# Altium footprint library IC_Digital.PcbLib: 17 footprints (part 1 of 2)
Each footprint in its own frame and in the unit in brackets; x right, y up, seen from the top. Pads: shape width x height; smd on the part's side, far side on the other; paste and mask are expansions set on the pad; w line width, h text height; cw(c..) or ccw(c..) is an arc to the next point about the centre after c.
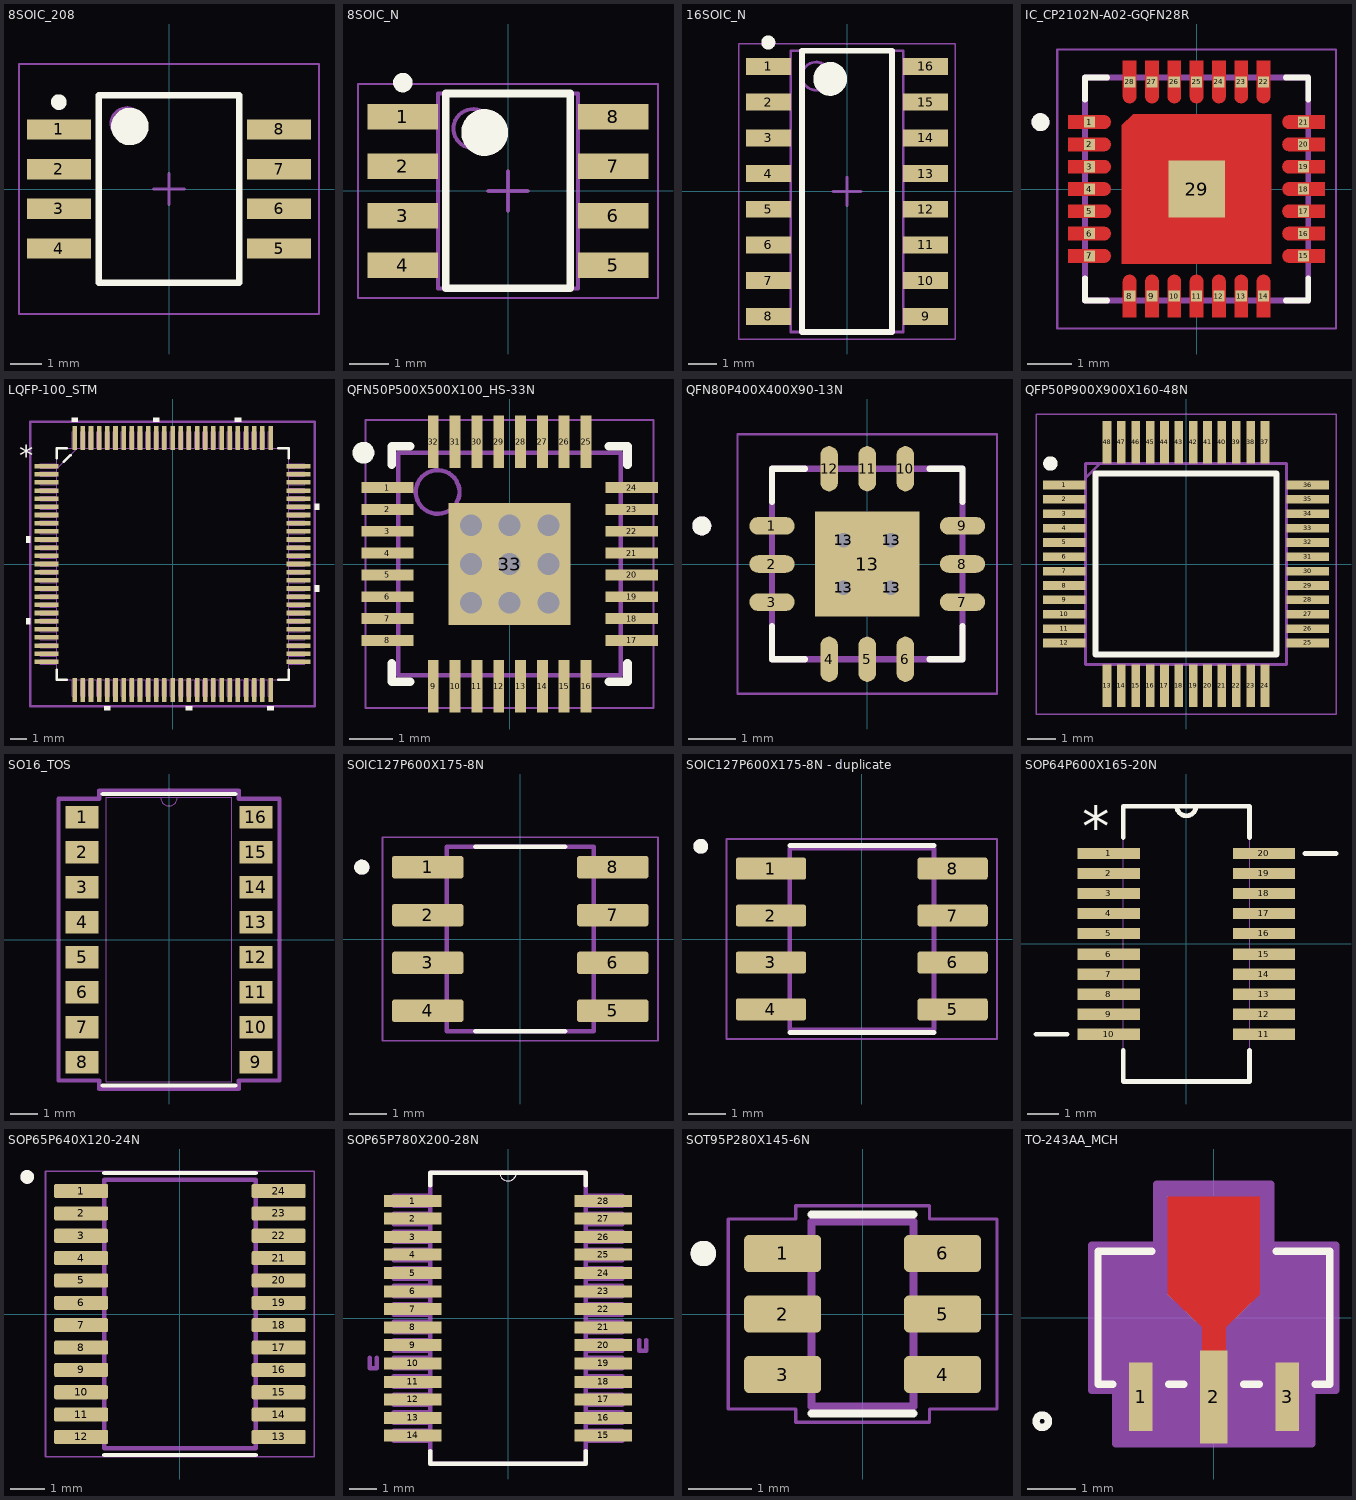
[diagram p0: the footprints below, top view; thin cyan lines are the x and y axes]

## 8SOIC_208 [mm] "SOIC, 8-Leads, Body 5,23x5,23mm, Pitch 1,27mm, IPC Medium Density"
height 1.95
pads (8):
  rect 2.05x0.65 smd: 1(-3.525,1.905) 2(-3.525,0.635) 3(-3.525,-0.635) 4(-3.525,-1.905) 5(3.525,-1.905) 6(3.525,-0.635) 7(3.525,0.635) 8(3.525,1.905)
Top Overlay:
  circle w0.6: c-1.25,2 r0.3
  circle w0.25: c-3.525,2.78 r0.125
  lines w0.2: -2.25,-3 2.25,-3 2.25,3 -2.25,3 -2.25,-3
Mechanical 13:
  circle w0.1: c-1.35,2.1 r0.5
  lines w0.1: -2.25,-3 2.25,-3 2.25,3 -2.25,3 -2.25,-3
Mechanical 15:
  lines w0.05: -4.8,-4 4.8,-4 4.8,4 -4.8,4 -4.8,-4
  lines w0.1: -0.5,0 0.5,0 ; 0,-0.5 0,0.5
3D body: height 1.95, standoff 0.01, extent -2.65,-2.65 2.65,2.65

## 8SOIC_N [mm] "SOIC, 8-Leads, Body 4,90x3,90mm, Pitch 1,27mm, IPC Medium Density"
height 1.75
pads (8):
  rect 1.8x0.65 smd: 1(-2.7,1.905) 2(-2.7,0.635) 3(-2.7,-0.635) 4(-2.7,-1.905) 5(2.7,-1.905) 6(2.7,-0.635) 7(2.7,0.635) 8(2.7,1.905)
Top Overlay:
  circle w0.25: c-2.7,2.78 r0.125
  circle w0.6: c-0.6,1.5 r0.3
  lines w0.2: -1.6,-2.5 -1.6,2.5 1.6,2.5 1.6,-2.5 -1.6,-2.5
Mechanical 13:
  circle w0.1: c-0.9,1.6 r0.5
  lines w0.1: -1.8,-2.5 -1.8,2.5 1.8,2.5 1.8,-2.5 -1.8,-2.5
Mechanical 15:
  lines w0.05: -3.85,-2.75 -3.85,2.75 3.85,2.75 3.85,-2.75 -3.85,-2.75
  lines w0.1: -0.5,0 0.5,0 ; 0,-0.5 0,0.5
3D body: height 1.75, standoff 0.01, extent -2,-2.5 2,2.5

## 16SOIC_N [mm] "SOIC, 16-Leads, Body 9,90x3,90mm, Pitch 1,27mm, IPC Medium Density"
height 1.75
pads (16):
  rect 1.6x0.6 smd: 1(-2.8,4.445) 2(-2.8,3.175) 3(-2.8,1.905) 4(-2.8,0.635) 5(-2.8,-0.635) 6(-2.8,-1.905) 7(-2.8,-3.175) 8(-2.8,-4.445) 9(2.8,-4.445) 10(2.8,-3.175) 11(2.8,-1.905) 12(2.8,-0.635) 13(2.8,0.635) 14(2.8,1.905) 15(2.8,3.175) 16(2.8,4.445)
Top Overlay:
  circle w0.6: c-0.6,4 r0.3
  circle w0.25: c-2.8,5.295 r0.125
  lines w0.2: -1.6,-5 1.6,-5 1.6,5 -1.6,5 -1.6,-5
Mechanical 13:
  circle w0.1: c-1.1,4.1 r0.5
  lines w0.1: -2,-5 2,-5 2,5 -2,5 -2,-5
Mechanical 15:
  lines w0.05: -3.85,-5.25 3.85,-5.25 3.85,5.25 -3.85,5.25 -3.85,-5.25
  lines w0.1: -0.5,0 0.5,0 ; 0,-0.5 0,0.5
3D body: height 1.75, standoff 0.01, extent -2,-5 2,5

## IC_CP2102N-A02-GQFN28R [mm]
height 0.8
pads (29):
  rect 0.25x0.25 smd paste-1 mask+0: 1(-2.4,1.5) 2(-2.4,1) 3(-2.4,0.5) 4(-2.4,0) 5(-2.4,-0.5) 6(-2.4,-1) 7(-2.4,-1.5) 8(-1.5,-2.4) 9(-1,-2.4) 10(-0.5,-2.4) 11(0,-2.4) 12(0.5,-2.4) 13(1,-2.4) 14(1.5,-2.4) 15(2.4,-1.5) 16(2.4,-1) 17(2.4,-0.5) 18(2.4,0) 19(2.4,0.5) 20(2.4,1) 21(2.4,1.5) 22(1.5,2.4) 23(1,2.4) 24(0.5,2.4) 25(0,2.4) 26(-0.5,2.4) 27(-1,2.4) 28(-1.5,2.4)
  rect 1.27x1.27 smd paste+0.424 mask+0: 29(0,0)
Top Layer:
  drawing of 29 lines, arcs and shapes, not listed
Top Overlay:
  circle w0.2: c-3.5,1.5 r0.1
  lines w0.127: -2.5,-2 -2.5,-2.5 -2,-2.5 ; -2.5,2 -2.5,2.5 -2,2.5 ; 2,-2.5 2.5,-2.5 2.5,-2 ; 2,2.5 2.5,2.5 2.5,2
Top Paste:
  drawing of 28 lines, arcs and shapes, not listed
Top Solder:
  drawing of 29 lines, arcs and shapes, not listed
Mechanical 13:
  circle w0.2: c-3.5,1.5 r0.1
  lines w0.127: -2.5,-2.5 2.5,-2.5 2.5,2.5 -2.5,2.5 -2.5,-2.5
Mechanical 15:
  lines w0.05: -3.125,-3.125 3.125,-3.125 3.125,3.125 -3.125,3.125 -3.125,-3.125
3D body "step_temp.STEP": height 0.8, standoff 0, extent -2.5,-2.5 2.5,2.5

## LQFP-100_STM [mil]
pads (100):
  rect 58x11 smd paste+0 mask+0: 1(-304,236.22) 2(-304,216.54) 3(-304,196.85) 4(-304,177.17) 5(-304,157.48) 6(-304,137.8) 7(-304,118.11) 8(-304,98.43) 9(-304,78.74) 10(-304,59.06) 11(-304,39.37) 12(-304,19.69) 13(-304,0) 14(-304,-19.68) 15(-304,-39.37) 16(-304,-59.06) 17(-304,-78.74) 18(-304,-98.43) 19(-304,-118.11) 20(-304,-137.8) 21(-304,-157.48) 22(-304,-177.17) 23(-304,-196.85) 24(-304,-216.54) 25(-304,-236.22) 51(304,-236.22) 52(304,-216.54) 53(304,-196.85) 54(304,-177.17) 55(304,-157.48) 56(304,-137.8) 57(304,-118.11) 58(304,-98.43) 59(304,-78.74) 60(304,-59.06) 61(304,-39.37) 62(304,-19.68) 63(304,0) 64(304,19.68) 65(304,39.37) 66(304,59.06) 67(304,78.74) 68(304,98.43) 69(304,118.11) 70(304,137.8) 71(304,157.48) 72(304,177.17) 73(304,196.85) 74(304,216.54) 75(304,236.22)
  rect 11x58 smd paste+0 mask+0: 26(-236.22,-304) 27(-216.54,-304) 28(-196.85,-304) 29(-177.17,-304) 30(-157.48,-304) 31(-137.8,-304) 32(-118.11,-304) 33(-98.43,-304) 34(-78.74,-304) 35(-59.06,-304) 36(-39.37,-304) 37(-19.68,-304) 38(0,-304) 39(19.68,-304) 40(39.37,-304) 41(59.06,-304) 42(78.74,-304) 43(98.43,-304) 44(118.11,-304) 45(137.8,-304) 46(157.48,-304) 47(177.17,-304) 48(196.85,-304) 49(216.54,-304) 50(236.22,-304) 76(236.22,304) 77(216.54,304) 78(196.85,304) 79(177.17,304) 80(157.48,304) 81(137.8,304) 82(118.11,304) 83(98.43,304) 84(78.74,304) 85(59.06,304) 86(39.37,304) 87(19.68,304) 88(0,304) 89(-19.68,304) 90(-39.37,304) 91(-59.06,304) 92(-78.74,304) 93(-98.43,304) 94(-118.11,304) 95(-137.8,304) 96(-157.48,304) 97(-177.17,304) 98(-196.85,304) 99(-216.54,304) 100(-236.22,304)
Top Overlay:
  region: -228.72,343 -243.72,343 -243.72,353 -228.72,353
  region: -31.87,343 -46.87,343 -46.87,353 -31.87,353
  region: 164.98,343 149.98,343 149.98,353 164.98,353
  region: 343,145.3 353,145.3 353,130.3 343,130.3
  region: 343,-51.56 353,-51.56 353,-66.56 343,-66.56
  region: 243.72,-343 228.72,-343 228.72,-353 243.72,-353
  region: 46.87,-343 31.87,-343 31.87,-353 46.87,-353
  region: -149.98,-343 -164.98,-343 -164.98,-353 -149.98,-353
  region: -343,-130.3 -353,-130.3 -353,-145.3 -343,-145.3
  region: -343,66.56 -353,66.56 -353,51.56 -343,51.56
  lines w6: -279.5,-254.82 -279.5,-279.5 -254.82,-279.5 ; -279.5,254.82 -279.5,279.5 -254.82,279.5 ; -262.72,246.28 -246.28,262.72 ; 254.82,-279.5 279.5,-279.5 279.5,-254.82 ; 254.82,279.5 279.5,279.5 279.5,254.82
  text "*" at -370.5,236.06 h50
Mechanical 13:
  drawing of 405 lines, arcs and shapes, not listed
  text "*" at -370.5,236.06 h50
Mechanical 15:
  lines w6: -343,-343 343,-343 343,343 -343,343 -343,-343
3D body "LQFP-100_STM.step": height 63.11, standoff 0, extent -319.02,-319.02 319.02,319.02

## QFN50P500X500X100_HS-33N [mm] "QFN, 32-Leads, Body 5,00x5,00mm, Pitch 0,50mm, Thermal Pad 3,10x3,10mm, IPC Medium Density"
height 1
pads (33):
  rect 1.2x0.25 smd: 1(-2.8,1.75) 2(-2.8,1.25) 3(-2.8,0.75) 4(-2.8,0.25) 5(-2.8,-0.25) 6(-2.8,-0.75) 7(-2.8,-1.25) 8(-2.8,-1.75) 17(2.8,-1.75) 18(2.8,-1.25) 19(2.8,-0.75) 20(2.8,-0.25) 21(2.8,0.25) 22(2.8,0.75) 23(2.8,1.25) 24(2.8,1.75)
  rect 0.25x1.2 smd: 9(-1.75,-2.8) 10(-1.25,-2.8) 11(-0.75,-2.8) 12(-0.25,-2.8) 13(0.25,-2.8) 14(0.75,-2.8) 15(1.25,-2.8) 16(1.75,-2.8) 25(1.75,2.8) 26(1.25,2.8) 27(0.75,2.8) 28(0.25,2.8) 29(-0.25,2.8) 30(-0.75,2.8) 31(-1.25,2.8) 32(-1.75,2.8)
  rect 2.8x2.8 smd: 33(0,0)
via 0,0 diameter 0.8 hole 0.5
via 0,0.889 diameter 0.8 hole 0.5
via 0.889,0.889 diameter 0.8 hole 0.5
via -0.889,0.889 diameter 0.8 hole 0.5
via -0.889,0 diameter 0.8 hole 0.5
via -0.889,-0.889 diameter 0.8 hole 0.5
via 0,-0.889 diameter 0.8 hole 0.5
via 0.889,-0.889 diameter 0.8 hole 0.5
via 0.889,0 diameter 0.8 hole 0.5
Top Overlay:
  circle w0.25: c-3.35,2.55 r0.125
  lines w0.2: -2.7,-2.275 -2.7,-2.7 -2.275,-2.7 ; -2.7,2.275 -2.7,2.7 -2.275,2.7 ; 2.275,-2.7 2.7,-2.7 2.7,-2.275 ; 2.275,2.7 2.7,2.7 2.7,2.275
Mechanical 13:
  circle w0.1: c-1.65,1.65 r0.5
  lines w0.1: -2.55,-2.55 2.55,-2.55 2.55,2.55 -2.55,2.55 -2.55,-2.55
Mechanical 15:
  lines w0.05: -3.3,-3.3 3.3,-3.3 3.3,3.3 -3.3,3.3 -3.3,-3.3
  lines w0.1: -0.5,0 0.5,0 ; 0,-0.5 0,0.5
3D body: height 1, standoff 0.1, extent -2.55,-2.55 2.55,2.55

## QFN80P400X400X90-13N [mm]
pads (17):
  oval 0.95x0.37 smd paste+0 mask+0.102: 1(-2,0.8) 2(-2,0) 3(-2,-0.8) 7(2,-0.8) 8(2,0) 9(2,0.8)
  oval 0.37x0.95 smd paste+0 mask+0.102: 4(-0.8,-2) 5(0,-2) 6(0.8,-2) 10(0.8,2) 11(0,2) 12(-0.8,2)
  round 0.5 hole 0.3 mask+0: 13(-0.5,-0.5) 13(-0.5,0.5) 13(0.5,-0.5) 13(0.5,0.5)
  rect 2.2x2.2 smd paste-0.404 mask+0.102: 13(0,0)
Top Overlay:
  circle w0.2: c-3.475,0.8 r0.1
  lines w0.127: -2,-1.305 -2,-2 -1.305,-2 ; -2,1.305 -2,2 -1.305,2 ; 1.305,-2 2,-2 2,-1.305 ; 1.305,2 2,2 2,1.305
Mechanical 13:
  circle w0.2: c-3.475,0.8 r0.1
  lines w0.127: -2,-2 -2,2 2,2 2,-2 -2,-2
Mechanical 15:
  lines w0.05: -2.725,-2.725 2.725,-2.725 2.725,2.725 -2.725,2.725 -2.725,-2.725

## QFP50P900X900X160-48N [mm]
pads (48):
  rect 1.475x0.3 smd: 1(-4.238,2.75) 2(-4.238,2.25) 3(-4.238,1.75) 4(-4.238,1.25) 5(-4.238,0.75) 6(-4.238,0.25) 7(-4.238,-0.25) 8(-4.238,-0.75) 9(-4.238,-1.25) 10(-4.238,-1.75) 11(-4.238,-2.25) 12(-4.238,-2.75) 25(4.238,-2.75) 26(4.238,-2.25) 27(4.238,-1.75) 28(4.238,-1.25) 29(4.238,-0.75) 30(4.238,-0.25) 31(4.238,0.25) 32(4.238,0.75) 33(4.238,1.25) 34(4.238,1.75) 35(4.238,2.25) 36(4.238,2.75)
  rect 0.3x1.475 smd: 13(-2.75,-4.238) 14(-2.25,-4.238) 15(-1.75,-4.238) 16(-1.25,-4.238) 17(-0.75,-4.238) 18(-0.25,-4.238) 19(0.25,-4.238) 20(0.75,-4.238) 21(1.25,-4.238) 22(1.75,-4.238) 23(2.25,-4.238) 24(2.75,-4.238) 37(2.75,4.238) 38(2.25,4.238) 39(1.75,4.238) 40(1.25,4.238) 41(0.75,4.238) 42(0.25,4.238) 43(-0.25,4.238) 44(-0.75,4.238) 45(-1.25,4.238) 46(-1.75,4.238) 47(-2.25,4.238) 48(-2.75,4.238)
Top Overlay:
  circle w0.25: c-4.725,3.5 r0.125
  lines w0.2: -3.15,-3.15 3.15,-3.15 3.15,3.15 -3.15,3.15 -3.15,-3.15
Mechanical 15:
  lines w0.1: -3.5,3 -3,3.5 ; -3.5,-3.5 3.5,-3.5 3.5,3.5 -3.5,3.5 -3.5,-3.5
Mechanical 20:
  lines w0.05: -5.225,-5.225 5.225,-5.225 5.225,5.225 -5.225,5.225 -5.225,-5.225

## SO16_TOS [mil]
pads (16):
  rect 47x32 smd paste+0 mask+0: 1(-124.02,175) 2(-124.02,125) 3(-124.02,75) 4(-124.02,25) 5(-124.02,-25) 6(-124.02,-75) 7(-124.02,-125) 8(-124.02,-175) 9(124.02,-175) 10(124.02,-125) 11(124.02,-75) 12(124.02,-25) 13(124.02,25) 14(124.02,75) 15(124.02,125) 16(124.02,175)
Top Overlay:
  lines w6: -94.5,-208 94.5,-208 ; -94.5,208 94.5,208
Mechanical 13:
  lines w0: -12,203 ccw(c0,203) 12,203
  lines w1: -89.5,-203 89.5,-203 89.5,203 -89.5,203 -89.5,-203
Mechanical 15:
  lines w6: -157.52,-201 -157.52,201 -99.5,201 -99.5,213 99.5,213 99.5,201 157.52,201 157.52,-201 99.5,-201 99.5,-213 -99.5,-213 -99.5,-201 -157.52,-201
3D body "SO16_TOS.step": height 90.98, standoff 0, extent -133.74,-202.99 133.74,202.99

## SOIC127P600X175-8N [mm]
pads (8):
  rrect25% 1.9x0.6 smd: 1(-2.455,1.905) 2(-2.455,0.635) 3(-2.455,-0.635) 4(-2.455,-1.905) 5(2.455,-1.905) 6(2.455,-0.635) 7(2.455,0.635) 8(2.455,1.905)
Top Overlay:
  circle w0.2: c-4.205,1.905 r0.1
  lines w0.127: -1.185,-2.45 1.185,-2.45 ; -1.185,2.45 1.185,2.45
Mechanical 13:
  circle w0.2: c-4.205,1.905 r0.1
  lines w0.127: -1.95,-2.45 1.95,-2.45 1.95,2.45 -1.95,2.45 -1.95,-2.45
Mechanical 15:
  lines w0.05: -3.655,-2.7 -3.655,2.7 3.655,2.7 3.655,-2.7 -3.655,-2.7

## SOIC127P600X175-8N - duplicate [mm]
pads (8):
  rrect25% 1.9x0.6 smd: 1(-2.455,1.905) 2(-2.455,0.635) 3(-2.455,-0.635) 4(-2.455,-1.905) 5(2.455,-1.905) 6(2.455,-0.635) 7(2.455,0.635) 8(2.455,1.905)
Top Overlay:
  circle w0.2: c-4.355,2.505 r0.1
  lines w0.127: -1.95,-2.525 1.95,-2.525 ; -1.95,2.525 1.95,2.525
Mechanical 13:
  circle w0.2: c-4.355,2.505 r0.1
  lines w0.127: -1.95,-2.45 1.95,-2.45 1.95,2.45 -1.95,2.45 -1.95,-2.45
Mechanical 15:
  lines w0.05: -3.655,-2.7 3.655,-2.7 3.655,2.7 -3.655,2.7 -3.655,-2.7
3D body "step_temp.STEP": height 1.75, standoff 0, extent -3,-2.45 3,2.45

## SOP64P600X165-20N [mil]
pads (20):
  rect 78x14 smd paste+0 mask+4.02: 1(-97,113) 2(-97,88) 3(-97,63) 4(-97,38) 5(-97,13) 6(-97,-13) 7(-97,-38) 8(-97,-63) 9(-97,-88) 10(-97,-113) 11(97,-113) 12(97,-88) 13(97,-63) 14(97,-38) 15(97,-13) 16(97,13) 17(97,38) 18(97,63) 19(97,88) 20(97,113)
Top Overlay:
  lines w6: -188,-113 -149,-113 ; -79,-133 -79,-172 79,-172 79,-133 ; -79,133 -79,172 -12,172 ; 79,133 79,172 12,172 ; 148,113 187,113 ; -12,172 ccw(c0,172) 12,172 ; -12,172 12,172
  text "*" at -130,122 h50
Mechanical 13:
  lines w0: -12,172 ccw(c0,172) 12,172 ; -12,172 -79,172 -79,-172 79,-172 79,172 12,172 ; -12,172 12,172 ; -122,-119 -79,-119 -79,-107 -122,-107 -122,-119 ; -122,-94 -79,-94 -79,-82 -122,-82 -122,-94 ; -122,-69 -79,-69 -79,-57 -122,-57 -122,-69 ; -122,-44 -79,-44 -79,-32 -122,-32 -122,-44 ; -122,-19 -79,-19 -79,-7 -122,-7 -122,-19 ; -122,7 -79,7 -79,19 -122,19 -122,7 ; -122,32 -79,32 -79,44 -122,44 -122,32 ; -122,57 -79,57 -79,69 -122,69 -122,57 ; -122,82 -79,82 -79,94 -122,94 -122,82 ; -122,107 -79,107 -79,119 -122,119 -122,107 ; 79,-119 122,-119 122,-107 79,-107 79,-119 ; 79,-94 122,-94 122,-82 79,-82 79,-94 ; 79,-69 122,-69 122,-57 79,-57 79,-69 ; 79,-44 122,-44 122,-32 79,-32 79,-44 ; 79,-19 122,-19 122,-7 79,-7 79,-19 ; 79,7 122,7 122,19 79,19 79,7 ; 79,32 122,32 122,44 79,44 79,32 ; 79,57 122,57 122,69 79,69 79,57 ; 79,82 122,82 122,94 79,94 79,82 ; 79,107 122,107 122,119 79,119 79,107
  text "*" at -130,122 h50
3D body "step_temp.STEP": height 68.9, standoff 0, extent -117.91,-170.47 117.91,170.47

## SOP65P640X120-24N [mm]
height 1.2
pads (24):
  rrect25% 1.57x0.41 smd: 1(-2.87,3.575) 2(-2.87,2.925) 3(-2.87,2.275) 4(-2.87,1.625) 5(-2.87,0.975) 6(-2.87,0.325) 7(-2.87,-0.325) 8(-2.87,-0.975) 9(-2.87,-1.625) 10(-2.87,-2.275) 11(-2.87,-2.925) 12(-2.87,-3.575) 13(2.87,-3.575) 14(2.87,-2.925) 15(2.87,-2.275) 16(2.87,-1.625) 17(2.87,-0.975) 18(2.87,-0.325) 19(2.87,0.325) 20(2.87,0.975) 21(2.87,1.625) 22(2.87,2.275) 23(2.87,2.925) 24(2.87,3.575)
Top Overlay:
  circle w0.2: c-4.44,3.985 r0.1
  lines w0.127: -2.2,-4.1 2.2,-4.1 ; -2.2,4.1 2.2,4.1
Mechanical 13:
  circle w0.2: c-4.44,3.985 r0.1
  lines w0.127: -2.2,-3.9 -2.2,3.9 2.2,3.9 2.2,-3.9 -2.2,-3.9
Mechanical 15:
  lines w0.05: -3.905,-4.15 -3.905,4.15 3.905,4.15 3.905,-4.15 -3.905,-4.15
3D body "step_temp.STEP": height 1.2, standoff 0, extent -3.2,-3.9 3.2,3.9

## SOP65P780X200-28N [mil]
pads (28):
  rect 81x17 smd: 1(-135,166) 2(-135,141) 3(-135,115) 4(-135,90) 5(-135,64) 6(-135,38) 7(-135,13) 8(-135,-13) 9(-135,-38) 10(-135,-64) 11(-135,-90) 12(-135,-115) 13(-135,-141) 14(-135,-166) 15(135,-166) 16(135,-141) 17(135,-115) 18(135,-90) 19(135,-64) 20(135,-38) 21(135,-13) 22(135,13) 23(135,38) 24(135,64) 25(135,90) 26(135,115) 27(135,141) 28(135,166)
Top Overlay:
  lines w0: -12,206.08 ccw(c0,206.5) 12,206.92 ; -12,206.08 ccw(c0,206.5) 12,206.92 ; -12,206.08 ccw(c0,206.5) 12,206.92
  lines w6: -110,-188 -110,-206 110,-206 110,-188 ; -110,188 -110,206 -12,206 110,206 110,188
Mechanical 13:
  lines w0: -12,206.08 ccw(c0,206.5) 12,206.92 ; -12,206.08 ccw(c0,206.5) 12,206.92 ; -12,206.08 ccw(c0,206.5) 12,206.92
  lines w6: -196,-56 -196,-71 -186,-71 -186,-56 ; 186,-31 186,-46 196,-46 196,-31 ; -162,-174 -110,-174 -110,-159 -162,-159 -162,-174 ; -162,-148 -110,-148 -110,-133 -162,-133 -162,-148 ; -162,-123 -110,-123 -110,-108 -162,-108 -162,-123 ; -162,-97 -110,-97 -110,-82 -162,-82 -162,-97 ; -162,-71 -110,-71 -110,-56 -162,-56 -162,-71 ; -162,-46 -110,-46 -110,-31 -162,-31 -162,-46 ; -162,-20 -110,-20 -110,-5 -162,-5 -162,-20 ; -162,5 -110,5 -110,20 -162,20 -162,5 ; -162,31 -110,31 -110,46 -162,46 -162,31 ; -162,56 -110,56 -110,71 -162,71 -162,56 ; -162,82 -110,82 -110,97 -162,97 -162,82 ; -162,108 -110,108 -110,123 -162,123 -162,108 ; -162,133 -110,133 -110,148 -162,148 -162,133 ; -162,159 -110,159 -110,174 -162,174 -162,159 ; -110,-206 -110,206 -12,206 110,206 110,-206 -110,-206 ; 110,-174 162,-174 162,-159 110,-159 110,-174 ; 110,-148 162,-148 162,-133 110,-133 110,-148 ; 110,-123 162,-123 162,-108 110,-108 110,-123 ; 110,-97 162,-97 162,-82 110,-82 110,-97 ; 110,-71 162,-71 162,-56 110,-56 110,-71 ; 110,-46 162,-46 162,-31 110,-31 110,-46 ; 110,-20 162,-20 162,-5 110,-5 110,-20 ; 110,5 162,5 162,20 110,20 110,5 ; 110,31 162,31 162,46 110,46 110,31 ; 110,56 162,56 162,71 110,71 110,56 ; 110,82 162,82 162,97 110,97 110,82 ; 110,108 162,108 162,123 110,123 110,108 ; 110,133 162,133 162,148 110,148 110,133 ; 110,159 162,159 162,174 110,174 110,159
  text "*" at -168.03,178.04 h50.01
  text "*" at -168.21,178.22 h50.06
  text "*" at -168.11,178.12 h50.03
3D body "step_temp.STEP": height 78.74, standoff 0, extent -153.54,-200.79 153.54,200.79

## SOT95P280X145-6N [mm]
pads (6):
  rrect25% 1.21x0.58 smd: 1(-1.255,0.95) 2(-1.255,0) 3(-1.255,-0.95) 4(1.255,-0.95) 5(1.255,0) 6(1.255,0.95)
Top Overlay:
  circle w0.2: c-2.5,0.95 r0.1
  lines w0.127: -0.8,-1.56 0.8,-1.56 ; -0.8,1.56 0.8,1.56
Mechanical 13:
  circle w0.2: c-2.5,0.95 r0.1
  lines w0.127: -0.8,-1.45 -0.8,1.45 0.8,1.45 0.8,-1.45 -0.8,-1.45
Mechanical 15:
  lines w0.05: -2.11,-1.49 -2.11,1.49 -1.05,1.49 -1.05,1.7 1.05,1.7 1.05,1.49 2.11,1.49 2.11,-1.49 1.05,-1.49 1.05,-1.7 -1.05,-1.7 -1.05,-1.49 -2.11,-1.49
3D body "step_temp.STEP": height 1.45, standoff 0, extent -1.4,-1.45 1.4,1.45

## TO-243AA_MCH [mm]
pads (3):
  rect 0.48x1.403 smd paste+0 mask+0: 1(-1.5,-1.623) 3(1.5,-1.623)
  rect 0.56x1.9 smd paste+0 mask+0: 2(0,-1.623)
Top Layer:
  region: 0.24,-1.232 -0.24,-1.232 -0.24,-0.191 -0.94,0.484 -0.94,2.476 -0.483,2.476 0.483,2.476 0.94,2.476 0.94,0.484 0.24,-0.191
Top Overlay:
  circle w0.152: c-3.518,-2.121 r0.127
  lines w0.152: -2.073,-1.359 -2.375,-1.359 -2.375,1.359 -1.273,1.359 ; -0.927,-1.359 -0.613,-1.359 ; 0.613,-1.359 0.927,-1.359 ; 1.273,1.359 2.375,1.359 2.375,-1.359 2.073,-1.359
Top Paste:
  region: 0.24,-1.232 -0.24,-1.232 -0.24,-0.191 -0.94,0.484 -0.94,2.476 0.94,2.476 0.94,0.484 0.24,-0.191
Top Solder:
  region: 0.24,-1.232 -0.24,-1.232 -0.24,-0.191 -0.94,0.484 -0.94,2.476 0.94,2.476 0.94,0.484 0.24,-0.191
Mechanical 13:
  circle w0: c-1.994,-0.978 r0.127
  lines w0.025: -2.248,-1.232 2.248,-1.232 2.248,1.232 -2.248,1.232 -2.248,-1.232 ; -1.74,-2.432 -1.74,-1.232 -1.26,-1.232 -1.26,-2.432 -1.74,-2.432 ; -0.24,-2.432 -0.24,-1.232 0.24,-1.232 0.24,-2.432 -0.24,-2.432 ; 1.26,-2.432 1.26,-1.232 1.74,-1.232 1.74,-2.432 1.26,-2.432
Mechanical 15:
  region: -2.502,-1.486 -2.502,1.486 -1.169,1.486 -1.169,2.73 1.169,2.73 1.169,1.486 2.502,1.486 2.502,-1.486 2.008,-1.486 2.008,-2.578 -2.008,-2.578 -2.008,-1.486
  lines w0.152: -2.502,-1.486 -2.502,1.486 -1.169,1.486 -1.169,2.73 1.169,2.73 1.169,1.486 2.502,1.486 2.502,-1.486 2.008,-1.486 2.008,-2.578 -2.008,-2.578 -2.008,-1.486 -2.502,-1.486